# Altium schematic symbol library 2-61304011121-8.SchLib: 1 symbol
Pins are listed as number, name and electrical type; pins without a type are passive.

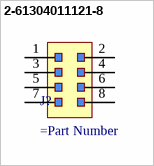
[diagram p0: symbol 2-61304011121-8]

## 2-61304011121-8
designator J?
=Description; ComponentLink1Description: Datasheet; ComponentLink1URL: https://www.mouser.ca/datasheet/2/445/61304011121-1718151.pdf
pins: 1, 2, 3, 4, 5, 6, 7, 8